# Altium schematic symbol library Capacitor.SchLib: 2 symbols
Pins are listed as number, name and electrical type; pins without a type are passive.

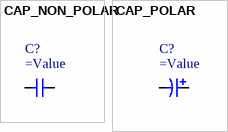
[diagram p0: symbols CAP_NON_POLAR to CAP_POLAR]

## CAP_NON_POLAR
designator C?
pins: 1, 2

## CAP_POLAR
designator C?
pins: 1, 2